# Altium footprint library RESC3225X70N.PcbLib: 1 footprints
Each footprint in its own frame and in the unit in brackets; x right, y up, seen from the top. Pads: shape width x height; smd on the part's side, far side on the other; paste and mask are expansions set on the pad; w line width, h text height; cw(c..) or ccw(c..) is an arc to the next point about the centre after c.
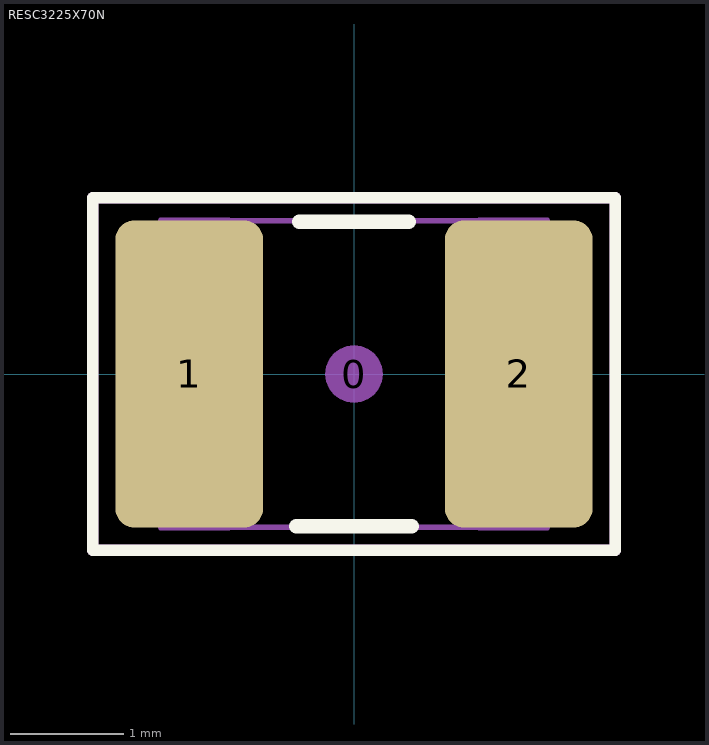
[diagram p0: the footprint, top view; thin cyan lines are the x and y axes]

## RESC3225X70N [mm] "Chip Resistor, Body 3.2x2.5mm, EIA 1210, IPC Medium Density"
height 0.7
pads (3):
  round 0.508 on Mech15: 0(0,0)
  rrect25% 1.3x2.7 smd: 1(-1.45,0) 2(1.45,0)
Top Overlay:
  lines w0.1: -2.3,-1.55 2.3,-1.55 2.3,1.55 -2.3,1.55 -2.3,-1.55
  lines w0.127: -0.508,-1.339 0.508,-1.339 ; -0.483,1.339 0.483,1.339
Mechanical 13:
  lines w0.05: -1.7,-1.35 -1.1,-1.35 -1.1,1.35 -1.7,1.35 -1.7,-1.35 ; -1.1,-1.349 1.1,-1.349 -1.1,-1.349 ; -1.1,1.349 1.1,1.349 -1.1,1.349 ; 1.1,-1.35 1.1,1.35 1.7,1.35 1.7,-1.35 1.1,-1.35
Mechanical 15:
  lines w0.1: -2.3,-1.55 2.3,-1.55 2.3,1.55 -2.3,1.55 -2.3,-1.55
3D body "RES 1210 (3225 metric).STEP": height 0.69, standoff -0.01, extent -1.7,-1.35 1.7,1.35